# EAGLE library part USB-B (library ads4)
USB Type-B Connector
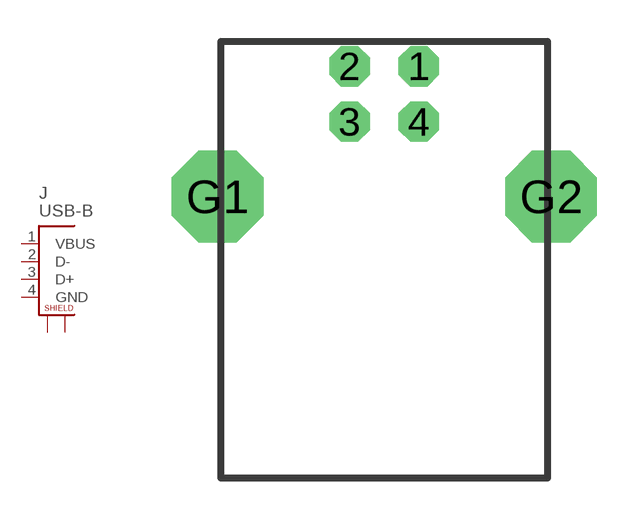
[diagram p31: symbol with the pads of PN61729; footprint PN61729]

Designator prefix J

## USB-B  [PN61729]
1  VBUS
2  D-
3  D+
4  GND
G1  G1
G2  G2

## Footprint PN61729 (pad centres in mm)
USB Type B connector Kobiconn 154-2442
drill 0.95 octagon: 1 1.25,4.71; 2 -1.25,4.71; 3 -1.25,2.71; 4 1.25,2.71
drill 2.3 octagon: G1 -6.02,0; G2 6.02,0